# Altium integrated library WE-PD2 SMD Power Inductor.IntLib: 122 symbols (part 2 of 2)
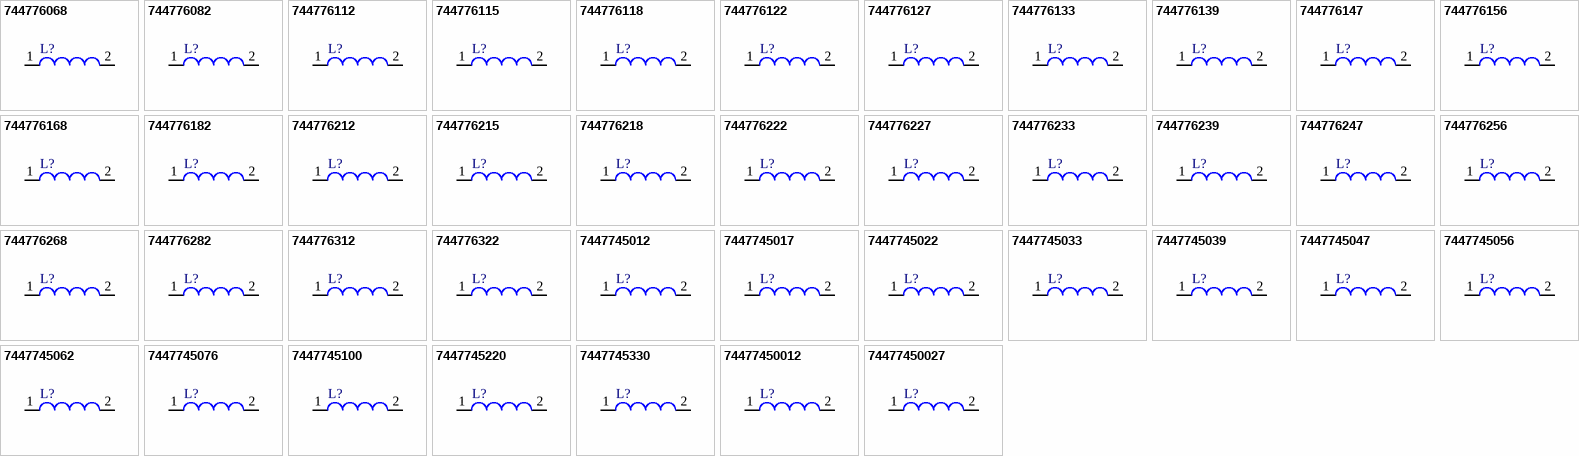
[diagram p4: symbols 744776068 to 74477450027]

## 744776227
designator L?
SMD Power Inductor WE-PD2, L = 270 µH; PartNumber: 744776227; Inductance: 270 µH; DatasheetVersion: ver 1, Oct-2004; PackageReference: WE-PD2-XL; PackageDescription: SMD Inductor, 2-Leads, Body 10.0 x 9.0 mm; ComponentLink1Description: Manufacturer URL; ComponentLink1URL: http://www.we-online.com; ComponentLink2Description: Datasheet; ComponentLink2URL: http://www.we-online.de/katalog/media/pdf/744776227.pdf
footprint WE-PD2-XL (SMD Inductor, 2-Leads, Body 10.0x9.0x5.9 mm)
pins: 1, 2

## 744776233
designator L?
SMD Power Inductor WE-PD2, L = 330 µH; PartNumber: 744776233; Inductance: 330 µH; DatasheetVersion: ver 1, Oct-2004; PackageReference: WE-PD2-XL; PackageDescription: SMD Inductor, 2-Leads, Body 10.0 x 9.0 mm; ComponentLink1Description: Manufacturer URL; ComponentLink1URL: http://www.we-online.com; ComponentLink2Description: Datasheet; ComponentLink2URL: http://www.we-online.de/katalog/media/pdf/744776233.pdf
footprint WE-PD2-XL (SMD Inductor, 2-Leads, Body 10.0x9.0x5.9 mm)
pins: 1, 2

## 744776239
designator L?
SMD Power Inductor WE-PD2, L = 390 µH; PartNumber: 744776239; Inductance: 390 µH; DatasheetVersion: ver 1, Oct-2004; PackageReference: WE-PD2-XL; PackageDescription: SMD Inductor, 2-Leads, Body 10.0 x 9.0 mm; ComponentLink1Description: Manufacturer URL; ComponentLink1URL: http://www.we-online.com; ComponentLink2Description: Datasheet; ComponentLink2URL: http://www.we-online.de/katalog/media/pdf/744776239.pdf
footprint WE-PD2-XL (SMD Inductor, 2-Leads, Body 10.0x9.0x5.9 mm)
pins: 1, 2

## 744776247
designator L?
SMD Power Inductor WE-PD2, L = 470 µH; PartNumber: 744776247; Inductance: 470 µH; DatasheetVersion: ver 1, Oct-2004; PackageReference: WE-PD2-XL; PackageDescription: SMD Inductor, 2-Leads, Body 10.0 x 9.0 mm; ComponentLink1Description: Manufacturer URL; ComponentLink1URL: http://www.we-online.com; ComponentLink2Description: Datasheet; ComponentLink2URL: http://www.we-online.de/katalog/media/pdf/744776247.pdf
footprint WE-PD2-XL (SMD Inductor, 2-Leads, Body 10.0x9.0x5.9 mm)
pins: 1, 2

## 744776256
designator L?
SMD Power Inductor WE-PD2, L = 560 µH; PartNumber: 744776256; Inductance: 560 µH; DatasheetVersion: ver 1, Oct-2004; PackageReference: WE-PD2-XL; PackageDescription: SMD Inductor, 2-Leads, Body 10.0 x 9.0 mm; ComponentLink1Description: Manufacturer URL; ComponentLink1URL: http://www.we-online.com; ComponentLink2Description: Datasheet; ComponentLink2URL: http://www.we-online.de/katalog/media/pdf/744776256.pdf
footprint WE-PD2-XL (SMD Inductor, 2-Leads, Body 10.0x9.0x5.9 mm)
pins: 1, 2

## 744776268
designator L?
SMD Power Inductor WE-PD2, L = 680 µH; PartNumber: 744776268; Inductance: 680 µH; DatasheetVersion: ver 1, Oct-2004; PackageReference: WE-PD2-XL; PackageDescription: SMD Inductor, 2-Leads, Body 10.0 x 9.0 mm; ComponentLink1Description: Manufacturer URL; ComponentLink1URL: http://www.we-online.com; ComponentLink2Description: Datasheet; ComponentLink2URL: http://www.we-online.de/katalog/media/pdf/744776268.pdf
footprint WE-PD2-XL (SMD Inductor, 2-Leads, Body 10.0x9.0x5.9 mm)
pins: 1, 2

## 744776282
designator L?
SMD Power Inductor WE-PD2, L = 820 µH; PartNumber: 744776282; Inductance: 820 µH; DatasheetVersion: ver 1, Oct-2004; PackageReference: WE-PD2-XL; PackageDescription: SMD Inductor, 2-Leads, Body 10.0 x 9.0 mm; ComponentLink1Description: Manufacturer URL; ComponentLink1URL: http://www.we-online.com; ComponentLink2Description: Datasheet; ComponentLink2URL: http://www.we-online.de/katalog/media/pdf/744776282.pdf
footprint WE-PD2-XL (SMD Inductor, 2-Leads, Body 10.0x9.0x5.9 mm)
pins: 1, 2

## 744776312
designator L?
SMD Power Inductor WE-PD2, L=1200 µH; PartNumber: 744776312; Inductance: 1200 µH; PackageReference: WE-PD2-XL; PackageDescription: SMD Inductor, 2-Leads, Body 10.0 x 9.0 mm; ComponentLink1Description: Manufacturer URL; ComponentLink1URL: http://www.we-online.com; ComponentLink2Description: Datasheet; ComponentLink2URL: http://www.we-online.de/katalog/media/pdf/744776312.pdf
footprint WE-PD2-XL (SMD Inductor, 2-Leads, Body 10.0x9.0x5.9 mm)
pins: 1, 2

## 744776322
designator L?
SMD Power Inductor WE-PD2, L=2200 µH; PartNumber: 744776322; Inductance: 2200 µH; PackageReference: WE-PD2-XL; PackageDescription: SMD Inductor, 2-Leads, Body 10.0 x 9.0 mm; ComponentLink1Description: Manufacturer URL; ComponentLink1URL: http://www.we-online.com; ComponentLink2Description: Datasheet; ComponentLink2URL: http://www.we-online.de/katalog/media/pdf/744776322.pdf
footprint WE-PD2-XL (SMD Inductor, 2-Leads, Body 10.0x9.0x5.9 mm)
pins: 1, 2

## 7447745012
designator L?
SMD Power Inductor WE-PD2, L = 1.20 µH; PartNumber: 7447745012; Inductance: 1.20 µH; DatasheetVersion: ver 2, May-2009; PackageReference: WE-PD2-MS; PackageDescription: SMD Inductor, 2-Leads, Body 5.8 x 5.2 mm; ComponentLink1Description: Manufacturer URL; ComponentLink1URL: http://www.we-online.com; ComponentLink2Description: Datasheet; ComponentLink2URL: http://www.we-online.de/katalog/media/pdf/7447745012.pdf
footprint WE-PD2-MS (SMD Inductor, 2-Leads, Body 5.8x5.2x2.3 mm)
pins: 1, 2

## 7447745017
designator L?
SMD Power Inductor WE-PD2, L = 1.70 µH; PartNumber: 7447745017; Inductance: 1.70 µH; DatasheetVersion: ver 2, May-2009; PackageReference: WE-PD2-MS; PackageDescription: SMD Inductor, 2-Leads, Body 5.8 x 5.2 mm; ComponentLink1Description: Manufacturer URL; ComponentLink1URL: http://www.we-online.com; ComponentLink2Description: Datasheet; ComponentLink2URL: http://www.we-online.de/katalog/media/pdf/7447745017.pdf
footprint WE-PD2-MS (SMD Inductor, 2-Leads, Body 5.8x5.2x2.3 mm)
pins: 1, 2

## 7447745022
designator L?
SMD Power Inductor WE-PD2, L = 2.20 µH; PartNumber: 7447745022; Inductance: 2.20 µH; DatasheetVersion: ver 2, May-2009; PackageReference: WE-PD2-MS; PackageDescription: SMD Inductor, 2-Leads, Body 5.8 x 5.2 mm; ComponentLink1Description: Manufacturer URL; ComponentLink1URL: http://www.we-online.com; ComponentLink2Description: Datasheet; ComponentLink2URL: http://www.we-online.de/katalog/media/pdf/7447745022.pdf
footprint WE-PD2-MS (SMD Inductor, 2-Leads, Body 5.8x5.2x2.3 mm)
pins: 1, 2

## 7447745033
designator L?
SMD Power Inductor WE-PD2, L = 3.30 µH; PartNumber: 7447745033; Inductance: 3.30 µH; DatasheetVersion: ver 2, May-2009; PackageReference: WE-PD2-MS; PackageDescription: SMD Inductor, 2-Leads, Body 5.8 x 5.2 mm; ComponentLink1Description: Manufacturer URL; ComponentLink1URL: http://www.we-online.com; ComponentLink2Description: Datasheet; ComponentLink2URL: http://www.we-online.de/katalog/media/pdf/7447745033.pdf
footprint WE-PD2-MS (SMD Inductor, 2-Leads, Body 5.8x5.2x2.3 mm)
pins: 1, 2

## 7447745039
designator L?
SMD Power Inductor WE-PD2, L = 3.90 µH; PartNumber: 7447745039; Inductance: 3.90 µH; DatasheetVersion: ver 2, May-2009; PackageReference: WE-PD2-MS; PackageDescription: SMD Inductor, 2-Leads, Body 5.8 x 5.2 mm; ComponentLink1Description: Manufacturer URL; ComponentLink1URL: http://www.we-online.com; ComponentLink2Description: Datasheet; ComponentLink2URL: http://www.we-online.de/katalog/media/pdf/7447745039.pdf
footprint WE-PD2-MS (SMD Inductor, 2-Leads, Body 5.8x5.2x2.3 mm)
pins: 1, 2

## 7447745047
designator L?
SMD Power Inductor WE-PD2, L = 4.70 µH; PartNumber: 7447745047; Inductance: 4.70 µH; DatasheetVersion: ver 2, May-2009; PackageReference: WE-PD2-MS; PackageDescription: SMD Inductor, 2-Leads, Body 5.8 x 5.2 mm; ComponentLink1Description: Manufacturer URL; ComponentLink1URL: http://www.we-online.com; ComponentLink2Description: Datasheet; ComponentLink2URL: http://www.we-online.de/katalog/media/pdf/7447745047.pdf
footprint WE-PD2-MS (SMD Inductor, 2-Leads, Body 5.8x5.2x2.3 mm)
pins: 1, 2

## 7447745056
designator L?
SMD Power Inductor WE-PD2, L = 5.60 µH; PartNumber: 7447745056; Inductance: 5.60 µH; DatasheetVersion: ver 2, May-2009; PackageReference: WE-PD2-MS; PackageDescription: SMD Inductor, 2-Leads, Body 5.8 x 5.2 mm; ComponentLink1Description: Manufacturer URL; ComponentLink1URL: http://www.we-online.com; ComponentLink2Description: Datasheet; ComponentLink2URL: http://www.we-online.de/katalog/media/pdf/7447745056.pdf
footprint WE-PD2-MS (SMD Inductor, 2-Leads, Body 5.8x5.2x2.3 mm)
pins: 1, 2

## 7447745062
designator L?
SMD Power Inductor WE-PD2, L = 6.20 µH; PartNumber: 7447745062; Inductance: 6.20 µH; DatasheetVersion: ver 2, May-2009; PackageReference: WE-PD2-MS; PackageDescription: SMD Inductor, 2-Leads, Body 5.8 x 5.2 mm; ComponentLink1Description: Manufacturer URL; ComponentLink1URL: http://www.we-online.com; ComponentLink2Description: Datasheet; ComponentLink2URL: http://www.we-online.de/katalog/media/pdf/7447745062.pdf
footprint WE-PD2-MS (SMD Inductor, 2-Leads, Body 5.8x5.2x2.3 mm)
pins: 1, 2

## 7447745076
designator L?
SMD Power Inductor WE-PD2, L = 7.60 µH; PartNumber: 7447745076; Inductance: 7.60 µH; DatasheetVersion: ver 2, May-2009; PackageReference: WE-PD2-MS; PackageDescription: SMD Inductor, 2-Leads, Body 5.8 x 5.2 mm; ComponentLink1Description: Manufacturer URL; ComponentLink1URL: http://www.we-online.com; ComponentLink2Description: Datasheet; ComponentLink2URL: http://www.we-online.de/katalog/media/pdf/7447745076.pdf
footprint WE-PD2-MS (SMD Inductor, 2-Leads, Body 5.8x5.2x2.3 mm)
pins: 1, 2

## 7447745100
designator L?
SMD Power Inductor WE-PD2, L = 10.0 µH; PartNumber: 7447745100; Inductance: 10.0 µH; DatasheetVersion: ver 2, May-2009; PackageReference: WE-PD2-MS; PackageDescription: SMD Inductor, 2-Leads, Body 5.8 x 5.2 mm; ComponentLink1Description: Manufacturer URL; ComponentLink1URL: http://www.we-online.com; ComponentLink2Description: Datasheet; ComponentLink2URL: http://www.we-online.de/katalog/media/pdf/7447745100.pdf
footprint WE-PD2-MS (SMD Inductor, 2-Leads, Body 5.8x5.2x2.3 mm)
pins: 1, 2

## 7447745220
designator L?
SMD Power Inductor WE-PD2, L = 22.0 µH; PartNumber: 7447745220; Inductance: 22.0 µH; DatasheetVersion: ver 3, Jun-2009; PackageReference: WE-PD2-MS; PackageDescription: SMD Inductor, 2-Leads, Body 5.8 x 5.2 mm; ComponentLink1Description: Manufacturer URL; ComponentLink1URL: http://www.we-online.com; ComponentLink2Description: Datasheet; ComponentLink2URL: http://www.we-online.de/katalog/media/pdf/7447745220.pdf
footprint WE-PD2-MS (SMD Inductor, 2-Leads, Body 5.8x5.2x2.3 mm)
pins: 1, 2

## 7447745330
designator L?
SMD Power Inductor WE-PD2, L = 33.0 µH; PartNumber: 7447745330; Inductance: 33.0 µH; DatasheetVersion: ver 2, May-2009; PackageReference: WE-PD2-MS; PackageDescription: SMD Inductor, 2-Leads, Body 5.8 x 5.2 mm; ComponentLink1Description: Manufacturer URL; ComponentLink1URL: http://www.we-online.com; ComponentLink2Description: Datasheet; ComponentLink2URL: http://www.we-online.de/katalog/media/pdf/7447745330.pdf
footprint WE-PD2-MS (SMD Inductor, 2-Leads, Body 5.8x5.2x2.3 mm)
pins: 1, 2

## 74477450012
designator L?
SMD Power Inductor WE-PD2, L = 0.12 µH; PartNumber: 74477450012; Inductance: 0.12 µH; DatasheetVersion: ver 2, May-2009; PackageReference: WE-PD2-MS; PackageDescription: SMD Inductor, 2-Leads, Body 5.8 x 5.2 mm; ComponentLink1Description: Manufacturer URL; ComponentLink1URL: http://www.we-online.com; ComponentLink2Description: Datasheet; ComponentLink2URL: http://www.we-online.de/katalog/media/pdf/74477450012.pdf
footprint WE-PD2-MS (SMD Inductor, 2-Leads, Body 5.8x5.2x2.3 mm)
pins: 1, 2

## 74477450027
designator L?
SMD Power Inductor WE-PD2, L = 0.27 µH; PartNumber: 74477450027; Inductance: 0.27 µH; DatasheetVersion: ver 2, May-2009; PackageReference: WE-PD2-MS; PackageDescription: SMD Inductor, 2-Leads, Body 5.8 x 5.2 mm; ComponentLink1Description: Manufacturer URL; ComponentLink1URL: http://www.we-online.com; ComponentLink2Description: Datasheet; ComponentLink2URL: http://www.we-online.de/katalog/media/pdf/74477450027.pdf
footprint WE-PD2-MS (SMD Inductor, 2-Leads, Body 5.8x5.2x2.3 mm)
pins: 1, 2

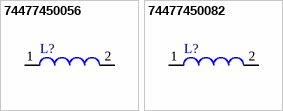
[diagram p3: symbols 74477450056 to 74477450082]

## 74477450056
designator L?
SMD Power Inductor WE-PD2, L = 0.56 µH; PartNumber: 74477450056; Inductance: 0.56 µH; DatasheetVersion: ver 2, May-2009; PackageReference: WE-PD2-MS; PackageDescription: SMD Inductor, 2-Leads, Body 5.8 x 5.2 mm; ComponentLink1Description: Manufacturer URL; ComponentLink1URL: http://www.we-online.com; ComponentLink2Description: Datasheet; ComponentLink2URL: http://www.we-online.de/katalog/media/pdf/74477450056.pdf
footprint WE-PD2-MS (SMD Inductor, 2-Leads, Body 5.8x5.2x2.3 mm)
pins: 1, 2

## 74477450082
designator L?
SMD Power Inductor WE-PD2, L = 0.82 µH; PartNumber: 74477450082; Inductance: 0.82 µH; DatasheetVersion: ver 2, May-2009; PackageReference: WE-PD2-MS; PackageDescription: SMD Inductor, 2-Leads, Body 5.8 x 5.2 mm; ComponentLink1Description: Manufacturer URL; ComponentLink1URL: http://www.we-online.com; ComponentLink2Description: Datasheet; ComponentLink2URL: http://www.we-online.de/katalog/media/pdf/74477450082.pdf
footprint WE-PD2-MS (SMD Inductor, 2-Leads, Body 5.8x5.2x2.3 mm)
pins: 1, 2